# Altium footprint library Header.PcbLib: 38 footprints (part 2 of 3)
Each footprint in its own frame and in the unit in brackets; x right, y up, seen from the top. Pads: shape width x height; smd on the part's side, far side on the other; paste and mask are expansions set on the pad; w line width, h text height; cw(c..) or ccw(c..) is an arc to the next point about the centre after c.
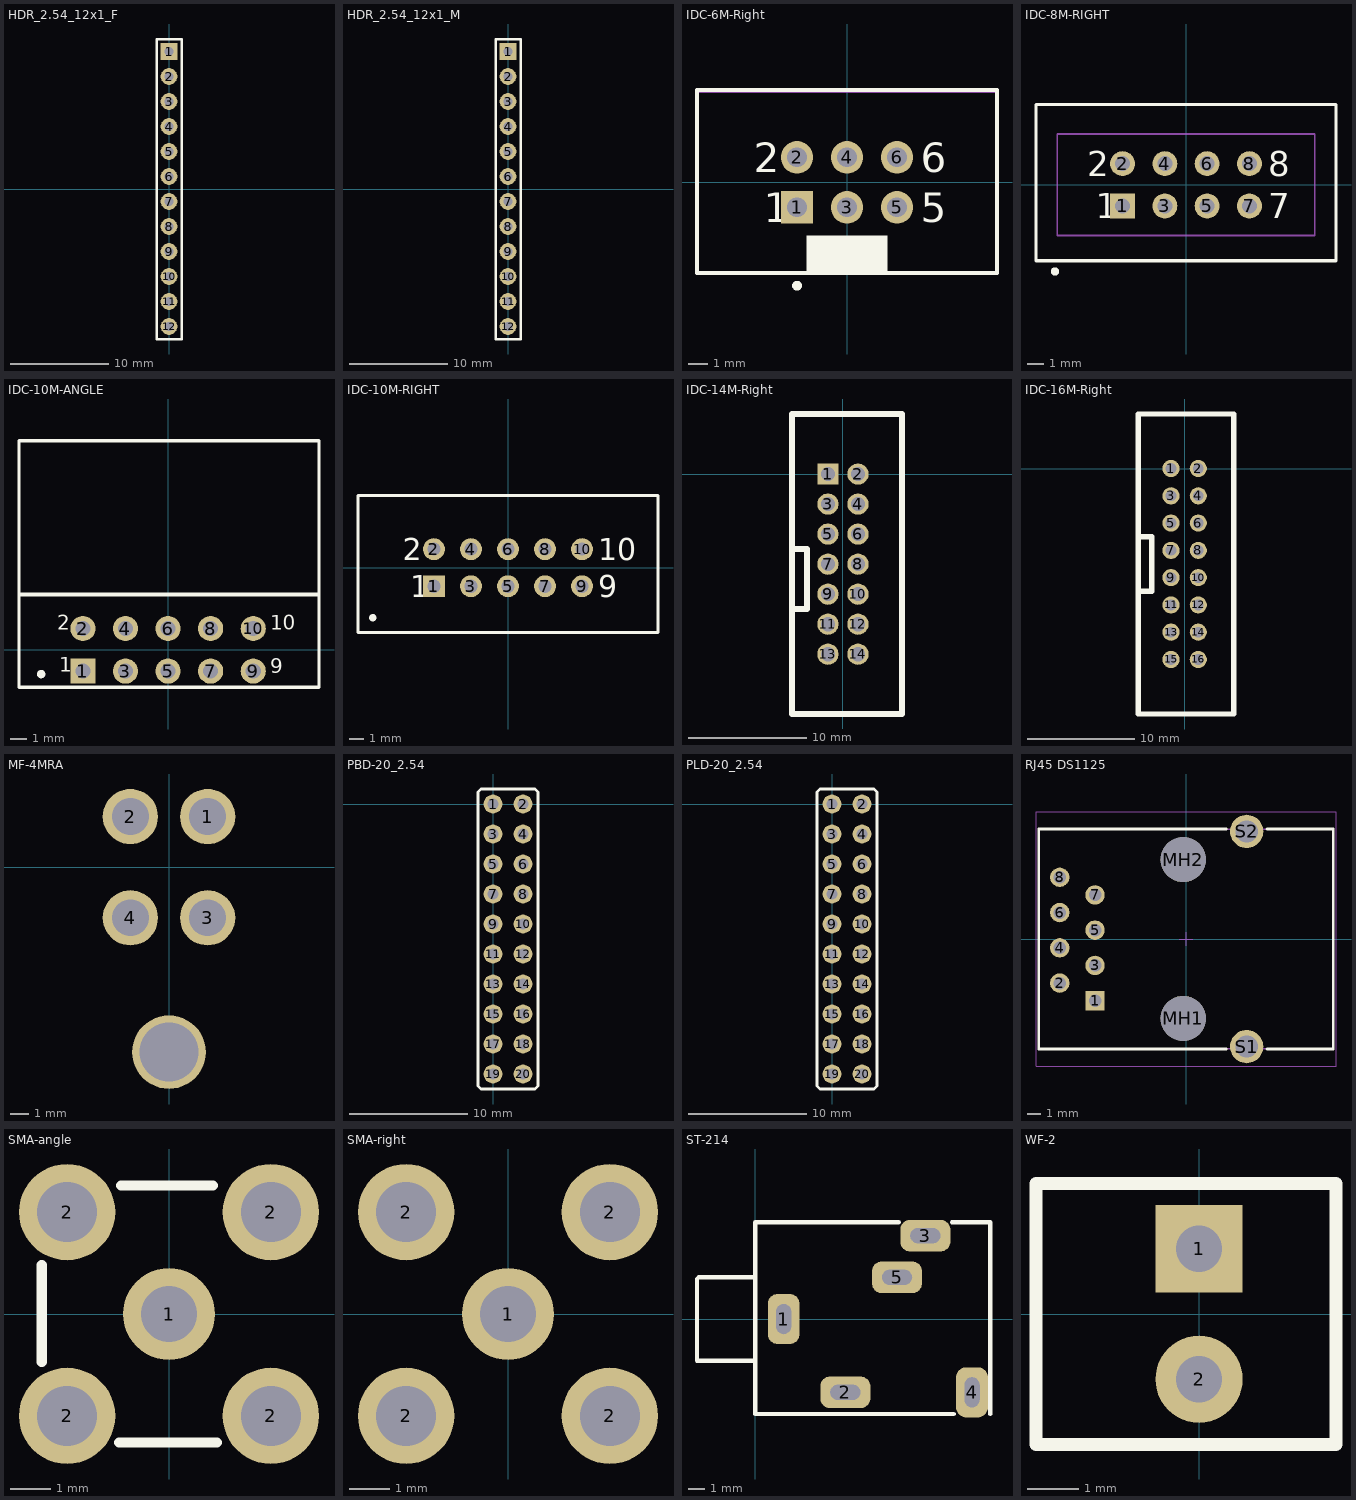
[diagram p1: the footprints below, top view; thin cyan lines are the x and y axes]

## HDR_2.54_12x1_F [mm]
height 5
pads (12):
  rect 1.7x1.7 hole 0.9: 1(0,13.97)
  round 1.7 hole 0.9: 2(0,11.43) 3(0,8.89) 4(0,6.35) 5(0,3.81) 6(0,1.27) 7(0,-1.27) 8(0,-3.81) 9(0,-6.35) 10(0,-8.89) 11(0,-11.43) 12(0,-13.97)
Top Overlay:
  lines w0.254: -1.27,-15.24 1.27,-15.24 1.27,15.24 -1.27,15.24 -1.27,-15.24
3D body "PBS-12.step": height 8.41, standoff -3.19, extent -1.27,-15.24 1.27,15.24

## HDR_2.54_12x1_M [mm]
height 5
pads (12):
  rect 1.7x1.7 hole 0.9: 1(0,13.97)
  round 1.7 hole 0.9: 2(0,11.43) 3(0,8.89) 4(0,6.35) 5(0,3.81) 6(0,1.27) 7(0,-1.27) 8(0,-3.81) 9(0,-6.35) 10(0,-8.89) 11(0,-11.43) 12(0,-13.97)
Top Overlay:
  lines w0.254: -1.27,-15.24 1.27,-15.24 1.27,15.24 -1.27,15.24 -1.27,-15.24
3D body "PLS-6.step": height 8.55, standoff -2.99, extent -1.27,-15.24 1.27,0
3D body "PLS-6.step": height 8.55, standoff -2.99, extent -1.27,0 1.27,15.24

## IDC-6M-Right [mm] "Connector; IDC, Low Profile Male Header, Thru-Hole; 6 Position; Vertical; Pitch 2.54 mm; Body 15.24 x 9.2 x 9.45 mm (LxWxH)"
height 9.45
pads (6):
  rect 1.65x1.65 hole 1: 1(-2.54,-1.27)
  round 1.65 hole 1: 2(-2.54,1.27) 3(0,-1.27) 4(0,1.27) 5(2.54,-1.27) 6(2.54,1.27)
Top Overlay:
  circle w0.25: c-2.54,-5.25 r0.125
  rectangle: -2.05,-4.6 2.05,-2.7
  lines w0.2: -7.62,-4.6 7.62,-4.6 7.62,4.699 -7.62,4.699 -7.62,-4.6
  text "5" at 3.74,-2.02 h1.5
  text "6" at 3.74,0.52 h1.5
  text "1" at -4.24,-2.02 h1.5
  text "2" at -4.74,0.52 h1.5
Mechanical 13:
  lines w0.1: -7.62,-4.6 -7.62,4.6 7.62,4.6 7.62,-4.6 -7.62,-4.6
3D body "User Library-IDC-6MS.STEP": height 9.13, standoff -3.27, extent -7.6,-4.064 7.62,4.786

## IDC-8M-RIGHT [mm] "Connector; IDC, PCB Transition - 2 Rows, Thru-Hole; 8 Position; Vertical; Pitch 2.54 mm; Body 15.46 x 6.1 x 7.45 mm (LxWxH)"
height 7.45
pads (8):
  rect 1.5x1.5 hole 0.9: 1(-3.81,-1.27)
  round 1.5 hole 0.9: 2(-3.81,1.27) 3(-1.27,-1.27) 4(-1.27,1.27) 5(1.27,-1.27) 6(1.27,1.27) 7(3.81,-1.27) 8(3.81,1.27)
Top Overlay:
  circle w0.25: c-7.874,-5.207 r0.125
  lines w0.2: -9.017,-4.572 -9.017,4.826 9.017,4.826 9.017,-4.572 -9.017,-4.572
  text "2" at -5.935,0.52 h1.5
  text "1" at -5.435,-2.02 h1.5
  text "8" at 4.935,0.52 h1.5
  text "7" at 4.935,-2.02 h1.5
Mechanical 13:
  lines w0.1: -7.73,-3.05 7.73,-3.05 7.73,3.05 -7.73,3.05 -7.73,-3.05
3D body "User Library-8 pin IDC shrouded header V2.STEP": height 9.23, standoff -2.92, extent -8.89,-4.445 8.89,4.755

## IDC-10M-ANGLE [mm] "Connector; IDC, PCB Transition - 2 Rows, Thru-Hole; 8 Position; Vertical; Pitch 2.54 mm; Body 15.46 x 6.1 x 7.45 mm (LxWxH)"
height 7.45
pads (10):
  rect 1.5x1.5 hole 0.9: 1(-5.08,-1.27)
  round 1.5 hole 0.9: 2(-5.08,1.27) 3(-2.54,-1.27) 4(-2.54,1.27) 5(0,-1.27) 6(0,1.27) 7(2.54,-1.27) 8(2.54,1.27) 9(5.08,-1.27) 10(5.08,1.27)
Top Overlay:
  circle w0.25: c-7.569,-1.448 r0.125
  lines w0.2: -8.89,-2.235 -8.89,12.471 9,12.471 9,-2.235 -8.89,-2.235
  lines w0.254: -8.798,3.302 -8.382,3.302 ; -8.38,3.3 -8.382,3.302 ; 8.9,3.302 -8.382,3.302
  text "2" at -6.6,0.9 h1.5
  text "1" at -6.5,-1.6 h1.5
  text "10" at 6.1,0.9 h1.5
  text "9" at 6.1,-1.7 h1.5
3D body "IDC-10_angle.step": height 8.9, standoff -3, extent -10.25,-1.574 10.25,12.446

## IDC-10M-RIGHT [mm] "Connector; IDC, PCB Transition - 2 Rows, Thru-Hole; 8 Position; Vertical; Pitch 2.54 mm; Body 15.46 x 6.1 x 7.45 mm (LxWxH)"
height 7.45
pads (10):
  rect 1.5x1.5 hole 0.9: 1(-5.08,-1.27)
  round 1.5 hole 0.9: 2(-5.08,1.27) 3(-2.54,-1.27) 4(-2.54,1.27) 5(0,-1.27) 6(0,1.27) 7(2.54,-1.27) 8(2.54,1.27) 9(5.08,-1.27) 10(5.08,1.27)
Top Overlay:
  circle w0.25: c-9.271,-3.429 r0.125
  lines w0.2: -10.287,-4.445 10.287,-4.445 10.287,4.953 -10.287,4.953 -10.287,-4.445
  text "9" at 6.205,-2.02 h1.5
  text "10" at 6.205,0.52 h1.5
  text "1" at -6.705,-2.02 h1.5
  text "2" at -7.205,0.52 h1.5
3D body "IDC-10MS.STEP": height 9.45, standoff -3.25, extent -10.2,-4.397 10.2,4.953

## IDC-14M-Right [mm]
pads (14):
  rect 1.8x1.8 hole 1.2: 1(-1.27,0)
  round 1.8 hole 1.2: 2(1.27,0) 3(-1.27,-2.54) 4(1.27,-2.54) 5(-1.27,-5.08) 6(1.27,-5.08) 7(-1.27,-7.62) 8(1.27,-7.62) 9(-1.27,-10.16) 10(1.27,-10.16) 11(-1.27,-12.7) 12(1.27,-12.7) 13(-1.27,-15.24) 14(1.27,-15.24)
Top Overlay:
  lines w0.5: -4.318,-11.43 -3.048,-11.43 -3.048,-6.35 -4.318,-6.35 ; -4.318,-20.3 -4.318,5.08 5,5.08 5,-20.3 -4.318,-20.3
3D body "IDC-14MS.STEP": height 9.45, standoff -3.25, extent -4.375,-20.3 4.975,5.1

## IDC-16M-Right [mm]
pads (16):
  round 1.6 hole 1: 1(-1.27,0) 2(1.27,0) 3(-1.27,-2.54) 4(1.27,-2.54) 5(-1.27,-5.08) 6(1.27,-5.08) 7(-1.27,-7.62) 8(1.27,-7.62) 9(-1.27,-10.16) 10(1.27,-10.16) 11(-1.27,-12.7) 12(1.27,-12.7) 13(-1.27,-15.24) 14(1.27,-15.24) 15(-1.27,-17.78) 16(1.27,-17.78)
Top Overlay:
  lines w0.5: -4.318,-11.43 -3.048,-11.43 -3.048,-6.35 -4.318,-6.35 ; -4.318,-22.86 -4.318,5.08 4.572,5.08 4.572,-22.86 -4.318,-22.86
3D body "IDC-16M-Right.step": height 9.33, standoff -3.07, extent -4.25,-22.85 4.6,5.07

## MF-4MRA [mm]
height 10
pads (5):
  round 3 hole 2: 1(2.1,2.75) 2(-2.1,2.75) 3(2.1,-2.75) 4(-2.1,-2.75)
  round 4 hole 3.2: ""(0,-10.05)
3D body "MF-4MRA.step": height 11.4, standoff -3.6, extent -5,-16.698 5,3.236

## PBD-20_2.54 [mm]
height 5
pads (20):
  round 1.6 hole 0.9: 1(0,0) 2(2.54,0) 3(0,-2.54) 4(2.54,-2.54) 5(0,-5.08) 6(2.54,-5.08) 7(0,-7.62) 8(2.54,-7.62) 9(0,-10.16) 10(2.54,-10.16) 11(0,-12.7) 12(2.54,-12.7) 13(0,-15.24) 14(2.54,-15.24) 15(0,-17.78) 16(2.54,-17.78) 17(0,-20.32) 18(2.54,-20.32) 19(0,-22.86) 20(2.54,-22.86)
Top Overlay:
  lines w0.254: -1.27,-23.876 -1.016,-24.13 3.556,-24.13 3.81,-23.876 3.81,1.016 3.556,1.27 -1.016,1.27 -1.27,1.016 -1.27,-23.876
3D body "PBD-20_2.54.step": height 8.4, standoff -2.7, extent -1.27,-24.13 3.81,1.27

## PLD-20_2.54 [mm]
height 5
pads (20):
  round 1.6 hole 0.9: 1(0,0) 2(2.54,0) 3(0,-2.54) 4(2.54,-2.54) 5(0,-5.08) 6(2.54,-5.08) 7(0,-7.62) 8(2.54,-7.62) 9(0,-10.16) 10(2.54,-10.16) 11(0,-12.7) 12(2.54,-12.7) 13(0,-15.24) 14(2.54,-15.24) 15(0,-17.78) 16(2.54,-17.78) 17(0,-20.32) 18(2.54,-20.32) 19(0,-22.86) 20(2.54,-22.86)
Top Overlay:
  lines w0.254: -1.27,-23.876 -1.27,1.016 -1.016,1.27 3.556,1.27 3.81,1.016 3.81,-23.876 3.556,-24.13 -1.016,-24.13 -1.27,-23.876
3D body "PLD-20_2.54.step": height 8.54, standoff -2.96, extent -1.27,-24.13 3.81,1.27

## RJ45 DS1125 [mm] "Modular Jack Horizontal Shielded 8P8C Tab Down"
height 13.65
pads (12):
  rect 1.4x1.4 hole 0.9: 1(-6.55,-4.445)
  round 1.4 hole 0.9: 2(-9.09,-3.175) 3(-6.55,-1.905) 4(-9.09,-0.635) 5(-6.55,0.635) 6(-9.09,1.905) 7(-6.55,3.175) 8(-9.09,4.445)
  round 3.25 hole 3.25 unplated: MH1(-0.2,-5.715) MH2(-0.2,5.715)
  round 2.4 hole 1.6: S1(4.37,-7.75) S2(4.37,7.75)
Top Overlay:
  lines w0.2: 2.9,-7.92 -10.6,-7.92 -10.6,7.92 2.9,7.92 ; 5.84,-7.92 10.6,-7.92 10.6,7.92 5.84,7.92
Mechanical 13:
  lines w0.1: -10.6,-7.92 10.6,-7.92 10.6,7.92 -10.6,7.92 -10.6,-7.92
Mechanical 15:
  lines w0.05: -0.5,0 0.5,0 ; 0,-0.5 0,0.5 ; -10.8,-9.15 -10.8,9.15 10.8,9.15 10.8,-9.15 -10.8,-9.15
3D body "61500814221 (rev1).stp": height 13.7, standoff -3.9, extent -10.6,-7.9 10.6,7.9

## SMA-angle [mm]
height 15
pads (5):
  round 2.3 hole 1.4: 1(0,0)
  round 2.4 hole 1.5: 2(-2.54,-2.54) 2(-2.54,2.54) 2(2.54,-2.54) 2(2.54,2.54)
Top Overlay:
  lines w0.254: -3.175,-1.194 -3.175,1.219 ; -1.245,-3.2 1.194,-3.2 ; -1.194,3.2 1.092,3.2
3D body "SMA-angle.step": height 9.55, standoff -3.94, extent -3.162,-3.175 11.646,3.175

## SMA-right [mm]
height 15
pads (5):
  round 2.3 hole 1.4: 1(0,0)
  round 2.4 hole 1.5: 2(-2.54,-2.54) 2(-2.54,2.54) 2(2.54,-2.54) 2(2.54,2.54)
3D body "sma.step": height 9.85, standoff -3.6, extent -3.155,-3.155 3.155,3.155

## ST-214 [mm]
pads (5):
  rrect60% 1.9x3 hole 1.8 slot 0.9 at 0 deg: 1(1.7,0) 4(13,-4.4)
  rrect60% 3x1.9 hole 1.8 slot 0.9 at 90 deg: 2(5.4,-4.4) 3(10.2,5) 5(8.5,2.5)
Top Overlay:
  lines w0.254: 0,-2.5 -3.5,-2.5 -3.5,2.4 -3.4,2.5 0,2.5 ; 8.6,5.8 0,5.8 0,-5.7 11.9,-5.7 ; 11.8,5.8 14.1,5.8 14.1,-5.7
3D body "ST-214.stp": height 6.5, standoff -2.5, extent -3.45,-5.7 14.05,5.8

## WF-2 [mm]
height 5
pads (2):
  rect 1.7x1.7 hole 0.9: 1(0,1.27)
  round 1.7 hole 0.9: 2(0,-1.27)
Top Overlay:
  lines w0.254: -3.175,-2.54 2.667,-2.54 2.667,2.54 -3.175,2.54 -3.175,-2.54
3D body "WF-2.step": height 11.75, standoff -2.52, extent -3.233,-2.6 2.667,2.6